# Altium integrated library Analog Devices Data Converters Analog-to-Digital Converters.IntLib: 2400 symbols (part 302 of 338)
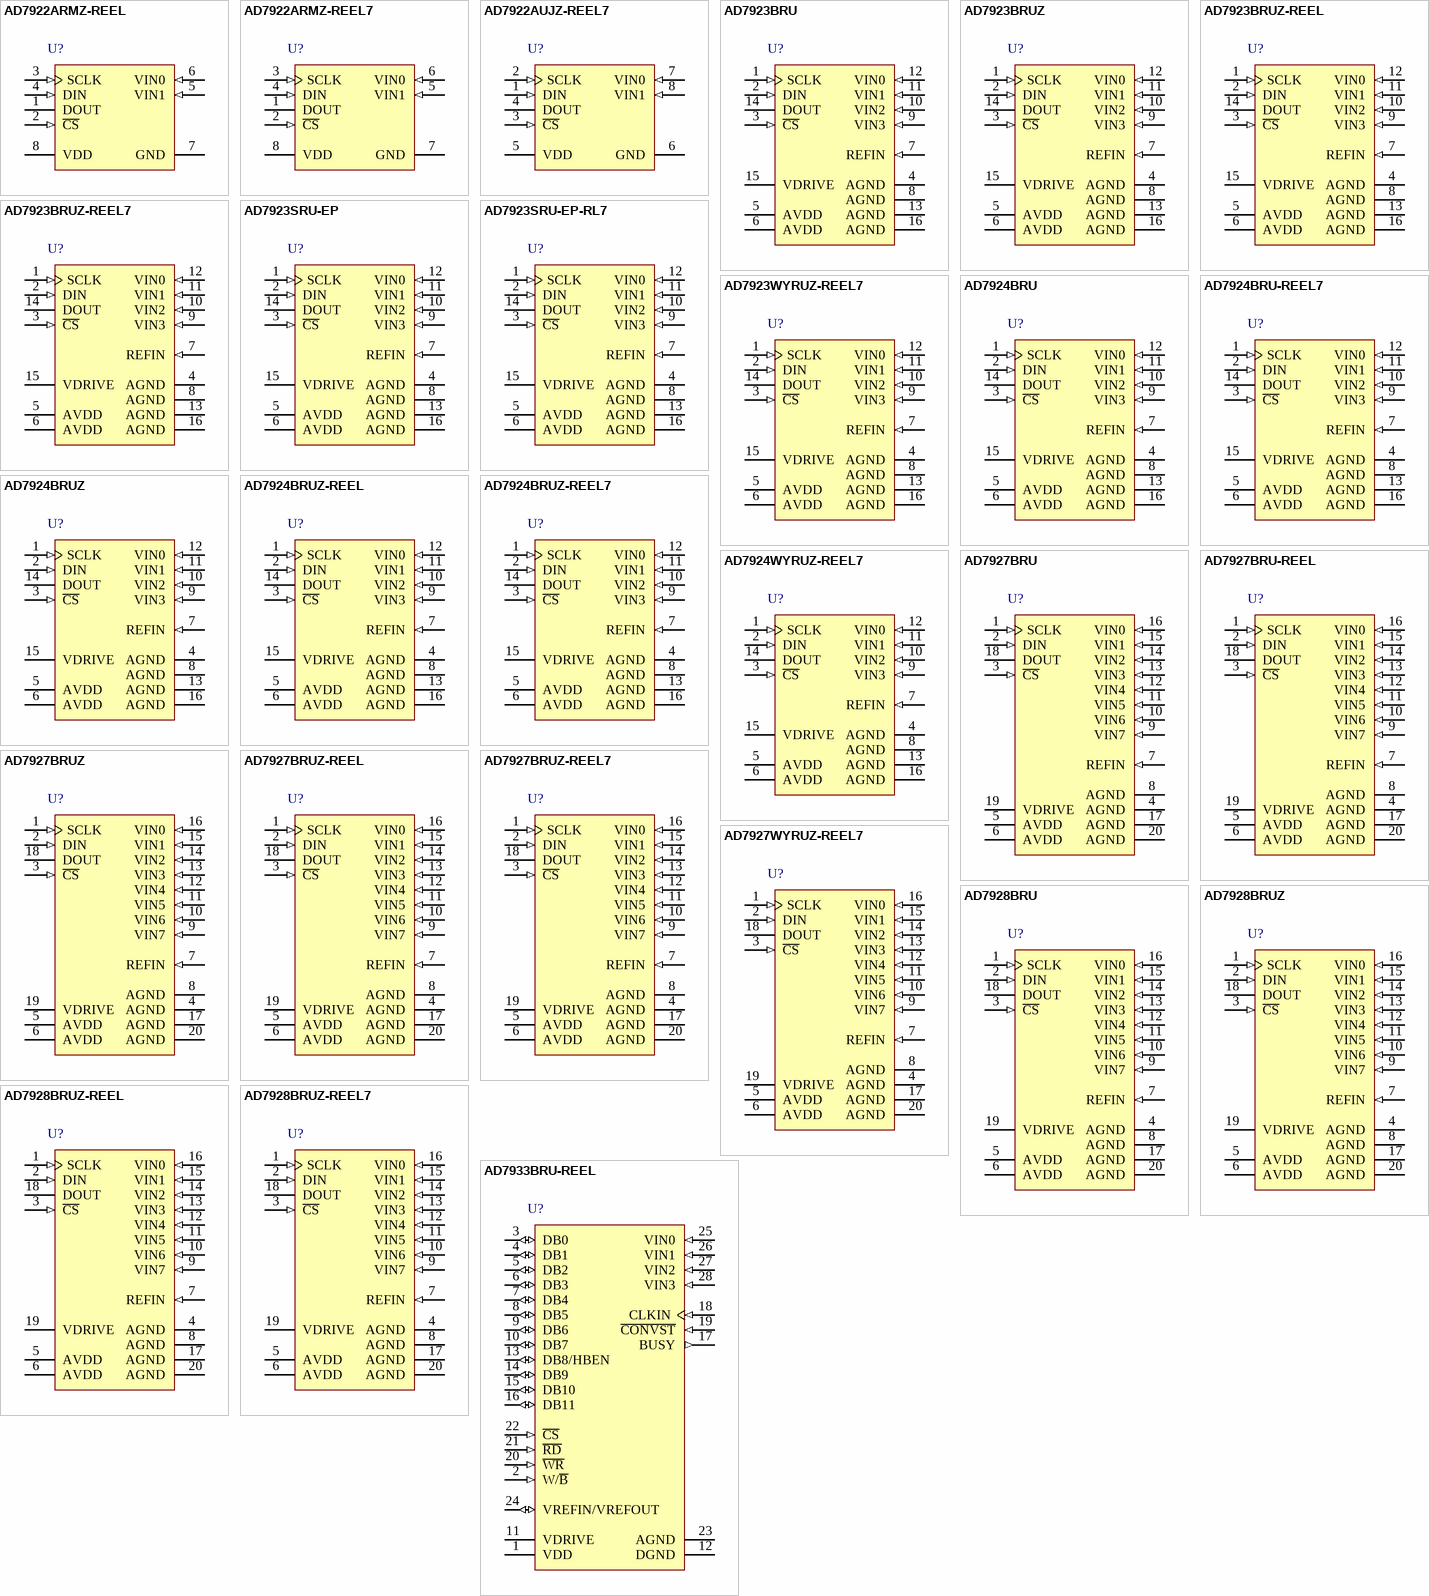
[diagram p319: symbols AD7922ARMZ-REEL to AD7933BRU-REEL]

## AD7927WYRUZ-REEL7
designator U?
Octal 12-Bit Analog-to-Digital Converter with Serial, SPI Interface and Sequencer, 200KSPS, -40 to +125 degC, RU-20, Pb-Free, Reel; Part Number: AD7927; Manufacturer: Analog Devices; Resolution (Bits): 12; Channels: 8; Throughput Rate (SPS): 200K; Interface: Ser, SPI; Automotive Qualified: Yes; DatasheetVersion: Rev.C; PackageVersion: 2000; PackageReference: RU-20; PackageDescription: 20-Lead Thin Shrink Small Outline Package [TSSOP]; RoHS: Y; Packing: Reel; Mounting Technology: Surface Mount; Code_JEDEC: MO-153AC; ComponentLink1Description: Manufacturer URL; ComponentLink1URL: http://www.analog.com/en/index.html; ComponentLink2Description: Datasheet; ComponentLink2URL: http://www.analog.com/static/imported-files/data_sheets/AD7927.pdf; ComponentLink3Description: Package Specification; ComponentLink3URL: http://www.analog.com/static/imported-files/packages/364515793657813558433715854054607941441RU20.pdf; ComponentLink4Description: Product URL; ComponentLink4URL: http://www.analog.com/en/analog-to-digital-converters/ad-converters/ad7927/products/product.html
footprint RU-20_N (TSOP, 20-Leads, Body 6.5x4.4mm, Pitch 0.65mm, IPC Medium Density)
footprint RU-20_L (TSOP, 20-Leads, Body 6.5x4.4mm, Pitch 0.65mm, IPC High Density)
footprint RU-20_M (TSOP, 20-Leads, Body 6.5x4.4mm, Pitch 0.65mm, IPC Low Density)
pins: 1 SCLK (in) "Serial Clock. Logic input. SCLK provides the serial clock for accessing data from the part. This clock input is also used as the clock source for the AD7927 conversion process.", 2 DIN (in) "Data In. Logic input. Data to be written to the AD7927 control register is provided on this input and is clocked into the register on the falling edge of SCLK (see the Control Register section).", 3 ~{CS} (in) "Chip Select. Active low logic input. This input provides the dual function of initiating conversions on the AD7927 and framing the serial data transfer.", 4 AGND (power) "Analog Ground. Ground reference point for all analog circuitry on the AD7927. All analog input signals and any external reference signal should be referred to this AGND voltage. All AGND pins should be connected together.", 5 AVDD (power) "Analog Power Supply Input. The AVDD range for the AD7927 is from 2.7 V to 5.25 V. For the 0 V to 2 x REFIN range, AVDD should be from 4.75 V to 5.25 V.", 6 AVDD (power) "Analog Power Supply Input. The AVDD range for the AD7927 is from 2.7 V to 5.25 V. For the 0 V to 2 x REFIN range, AVDD should be from 4.75 V to 5.25 V.", 7 REFIN (in) "Reference Input for the AD7927. An external reference must be applied to this input. The voltage range for the external reference is 2.5 V +/-1% for specified performance.", 8 AGND (power) "Analog Ground. Ground reference point for all analog circuitry on the AD7927. All analog input signals and any external reference signal should be referred to this AGND voltage. All AGND pins should be connected together.", 9 VIN7 (in) "Analog Input 7. Eight single-ended analog input channels that are multiplexed into the on-chip track-and-hold. The analog input channel to be converted is selected by using the address bits (ADD2 through ADD0) of the control (See Datasheet)", 10 VIN6 (in) "Analog Input 6. Eight single-ended analog input channels that are multiplexed into the on-chip track-and-hold. The analog input channel to be converted is selected by using the address bits (ADD2 through ADD0) of the control (See Datasheet)", 11 VIN5 (in) "Analog Input 5. Eight single-ended analog input channels that are multiplexed into the on-chip track-and-hold. The analog input channel to be converted is selected by using the address bits (ADD2 through ADD0) of the control (See Datasheet)", 12 VIN4 (in) "Analog Input 4. Eight single-ended analog input channels that are multiplexed into the on-chip track-and-hold. The analog input channel to be converted is selected by using the address bits (ADD2 through ADD0) of the control (See Datasheet)", 13 VIN3 (in) "Analog Input 3. Eight single-ended analog input channels that are multiplexed into the on-chip track-and-hold. The analog input channel to be converted is selected by using the address bits (ADD2 through ADD0) of the control (See Datasheet)", 14 VIN2 (in) "Analog Input 2. Eight single-ended analog input channels that are multiplexed into the on-chip track-and-hold. The analog input channel to be converted is selected by using the address bits (ADD2 through ADD0) of the control (See Datasheet)", 15 VIN1 (in) "Analog Input 1. Eight single-ended analog input channels that are multiplexed into the on-chip track-and-hold. The analog input channel to be converted is selected by using the address bits (ADD2 through ADD0) of the control (See Datasheet)", 16 VIN0 (in) "Analog Input 0 . Eight single-ended analog input channels that are multiplexed into the on-chip track-and-hold. The analog input channel to be converted is selected by using the address bits (ADD2 through ADD0) of the (See Datasheet)", 17 AGND (power) "Analog Ground. Ground reference point for all analog circuitry on the AD7927. All analog input signals and any external reference signal should be referred to this AGND voltage. All AGND pins should be connected together.", 18 DOUT (hiz) "Data Out. Logic output. The conversion result from the AD7927 is provided on this output as a serial data stream. The bits are clocked out on the falling edge of the SCLK input. The data stream from the AD7927 consists of (See Datasheet)", 19 VDRIVE (power) "Logic Power Supply Input. The voltage supplied at this pin determines at what voltage the serial interface of the AD7927 operates.", 20 AGND (power) "Analog Ground. Ground reference point for all analog circuitry on the AD7927. All analog input signals and any external reference signal should be referred to this AGND voltage. All AGND pins should be connected together."

## AD7928BRU
designator U?
Octal 12-Bit Analog-to-Digital Converter with Serial, SPI Interface and Sequencer, 1MSPS, -40 to +85 degC, RU-20, Tube; Part Number: AD7928; Manufacturer: Analog Devices; Resolution (Bits): 12; Channels: 8; Throughput Rate (SPS): 1M; Interface: Ser, SPI; Automotive Qualified: Yes; DatasheetVersion: Rev.D; PackageVersion: 2000; PackageReference: RU-20; PackageDescription: 20-Lead Thin Shrink Small Outline Package [TSSOP]; RoHS: N; Packing: Tube; Mounting Technology: Surface Mount; Code_JEDEC: MO-153AC; ComponentLink1Description: Manufacturer URL; ComponentLink1URL: http://www.analog.com/en/index.html; ComponentLink2Description: Datasheet; ComponentLink2URL: http://www.analog.com/static/imported-files/data_sheets/AD7908_7918_7928.pdf; ComponentLink3Description: Package Specification; ComponentLink3URL: http://www.analog.com/static/imported-files/packages/364515793657813558433715854054607941441RU20.pdf; ComponentLink4Description: Product URL; ComponentLink4URL: http://www.analog.com/en/analog-to-digital-converters/ad-converters/ad7928/products/product.html
footprint RU-20_N (TSOP, 20-Leads, Body 6.5x4.4mm, Pitch 0.65mm, IPC Medium Density)
footprint RU-20_L (TSOP, 20-Leads, Body 6.5x4.4mm, Pitch 0.65mm, IPC High Density)
footprint RU-20_M (TSOP, 20-Leads, Body 6.5x4.4mm, Pitch 0.65mm, IPC Low Density)
pins: 1 SCLK (in) "Serial Clock. Logic input. SCLK provides the serial clock for accessing data from the part. This clock input is also used as the clock source for the conversion process of the AD7908/AD7918/AD7928.", 2 DIN (in) "Data In. Logic input. Data to be written to the control register of the AD7908/AD7918/AD7928 is provided on this input and is clocked into the register on the falling edge of SCLK (see the Control Register section).", 3 ~{CS} (in) "Chip Select. Active low logic input. This input provides the dual function of initiating conversions on the AD7908/AD7918/AD7928, and also frames the serial data transfer.", 4 AGND (power) "Analog Ground. This is the ground reference point for all analog circuitry on the AD7908/AD7918/AD7928. All analog input signals and any external reference signal should be referred to this AGND voltage. All AGND pins should (See Datasheet)", 5 AVDD (power) "Analog Power Supply Input. The AVDD range for the AD7908/AD7918/AD7928 is from 2.7 V to 5.25 V. For the 0 V to 2 x REFIN range, AVDD should be from 4.75 V to 5.25 V.", 6 AVDD (power) "Analog Power Supply Input. The AVDD range for the AD7908/AD7918/AD7928 is from 2.7 V to 5.25 V. For the 0 V to 2 x REFIN range, AVDD should be from 4.75 V to 5.25 V.", 7 REFIN (in) "Reference Input for the AD7908/AD7918/AD7928. An external reference must be applied to this input. The voltage range for the external reference is 2.5 V +/- 1% for specified performance.", 8 AGND (power) "Analog Ground. This is the ground reference point for all analog circuitry on the AD7908/AD7918/AD7928. All analog input signals and any external reference signal should be referred to this AGND voltage. All AGND pins should (See Datasheet)", 9 VIN7 (in) "Analog Input 0 through Analog Input 7. These are eight single-ended analog input channels that are multiplexed into the on-chip track-and-hold. The analog input channel to be converted is selected by using Address Bit ADD2 (See Datasheet)", 10 VIN6 (in) "Analog Input 0 through Analog Input 7. These are eight single-ended analog input channels that are multiplexed into the on-chip track-and-hold. The analog input channel to be converted is selected by using Address Bit ADD2 (See Datasheet)", 11 VIN5 (in) "Analog Input 0 through Analog Input 7. These are eight single-ended analog input channels that are multiplexed into the on-chip track-and-hold. The analog input channel to be converted is selected by using Address Bit ADD2 (See Datasheet)", 12 VIN4 (in) "Analog Input 0 through Analog Input 7. These are eight single-ended analog input channels that are multiplexed into the on-chip track-and-hold. The analog input channel to be converted is selected by using Address Bit ADD2 (See Datasheet)", 13 VIN3 (in) "Analog Input 0 through Analog Input 7. These are eight single-ended analog input channels that are multiplexed into the on-chip track-and-hold. The analog input channel to be converted is selected by using Address Bit ADD2 (See Datasheet)", 14 VIN2 (in) "Analog Input 0 through Analog Input 7. These are eight single-ended analog input channels that are multiplexed into the on-chip track-and-hold. The analog input channel to be converted is selected by using Address Bit ADD2 (See Datasheet)", 15 VIN1 (in) "Analog Input 0 through Analog Input 7. These are eight single-ended analog input channels that are multiplexed into the on-chip track-and-hold. The analog input channel to be converted is selected by using Address Bit ADD2 (See Datasheet)", 16 VIN0 (in) "Analog Input 0 through Analog Input 7. These are eight single-ended analog input channels that are multiplexed into the on-chip track-and-hold. The analog input channel to be converted is selected by using Address Bit ADD2 (See Datasheet)", 17 AGND (power) "Analog Ground. This is the ground reference point for all analog circuitry on the AD7908/AD7918/AD7928. All analog input signals and any external reference signal should be referred to this AGND voltage. All AGND pins should (See Datasheet)", 18 DOUT (hiz) "Data Out. Logic output. The conversion result from the AD7908/AD7918/AD7928 is provided on this output as a serial data stream. The bits are clocked out on the falling edge of the SCLK input. The data stream from the AD7908 (See Datasheet)", 19 VDRIVE (power) "Logic Power Supply Input. The voltage supplied at this pin determines at what voltage the serial interface of the AD7908/AD7918/AD7928 operates.", 20 AGND (power) "Analog Ground. This is the ground reference point for all analog circuitry on the AD7908/AD7918/AD7928. All analog input signals and any external reference signal should be referred to this AGND voltage. All AGND pins should (See Datasheet)"

## AD7928BRUZ
designator U?
Octal 12-Bit Analog-to-Digital Converter with Serial, SPI Interface and Sequencer, 1MSPS, -40 to +85 degC, RU-20, Pb-Free, Tube; Part Number: AD7928; Manufacturer: Analog Devices; Resolution (Bits): 12; Channels: 8; Throughput Rate (SPS): 1M; Interface: Ser, SPI; Automotive Qualified: Yes; DatasheetVersion: Rev.D; PackageVersion: 2000; PackageReference: RU-20; PackageDescription: 20-Lead Thin Shrink Small Outline Package [TSSOP]; RoHS: Y; Packing: Tube; Mounting Technology: Surface Mount; Code_JEDEC: MO-153AC; ComponentLink1Description: Manufacturer URL; ComponentLink1URL: http://www.analog.com/en/index.html; ComponentLink2Description: Datasheet; ComponentLink2URL: http://www.analog.com/static/imported-files/data_sheets/AD7908_7918_7928.pdf; ComponentLink3Description: Package Specification; ComponentLink3URL: http://www.analog.com/static/imported-files/packages/364515793657813558433715854054607941441RU20.pdf; ComponentLink4Description: Product URL; ComponentLink4URL: http://www.analog.com/en/analog-to-digital-converters/ad-converters/ad7928/products/product.html
footprint RU-20_N (TSOP, 20-Leads, Body 6.5x4.4mm, Pitch 0.65mm, IPC Medium Density)
footprint RU-20_L (TSOP, 20-Leads, Body 6.5x4.4mm, Pitch 0.65mm, IPC High Density)
footprint RU-20_M (TSOP, 20-Leads, Body 6.5x4.4mm, Pitch 0.65mm, IPC Low Density)
pins: 1 SCLK (in) "Serial Clock. Logic input. SCLK provides the serial clock for accessing data from the part. This clock input is also used as the clock source for the conversion process of the AD7908/AD7918/AD7928.", 2 DIN (in) "Data In. Logic input. Data to be written to the control register of the AD7908/AD7918/AD7928 is provided on this input and is clocked into the register on the falling edge of SCLK (see the Control Register section).", 3 ~{CS} (in) "Chip Select. Active low logic input. This input provides the dual function of initiating conversions on the AD7908/AD7918/AD7928, and also frames the serial data transfer.", 4 AGND (power) "Analog Ground. This is the ground reference point for all analog circuitry on the AD7908/AD7918/AD7928. All analog input signals and any external reference signal should be referred to this AGND voltage. All AGND pins should (See Datasheet)", 5 AVDD (power) "Analog Power Supply Input. The AVDD range for the AD7908/AD7918/AD7928 is from 2.7 V to 5.25 V. For the 0 V to 2 x REFIN range, AVDD should be from 4.75 V to 5.25 V.", 6 AVDD (power) "Analog Power Supply Input. The AVDD range for the AD7908/AD7918/AD7928 is from 2.7 V to 5.25 V. For the 0 V to 2 x REFIN range, AVDD should be from 4.75 V to 5.25 V.", 7 REFIN (in) "Reference Input for the AD7908/AD7918/AD7928. An external reference must be applied to this input. The voltage range for the external reference is 2.5 V +/- 1% for specified performance.", 8 AGND (power) "Analog Ground. This is the ground reference point for all analog circuitry on the AD7908/AD7918/AD7928. All analog input signals and any external reference signal should be referred to this AGND voltage. All AGND pins should (See Datasheet)", 9 VIN7 (in) "Analog Input 0 through Analog Input 7. These are eight single-ended analog input channels that are multiplexed into the on-chip track-and-hold. The analog input channel to be converted is selected by using Address Bit ADD2 (See Datasheet)", 10 VIN6 (in) "Analog Input 0 through Analog Input 7. These are eight single-ended analog input channels that are multiplexed into the on-chip track-and-hold. The analog input channel to be converted is selected by using Address Bit ADD2 (See Datasheet)", 11 VIN5 (in) "Analog Input 0 through Analog Input 7. These are eight single-ended analog input channels that are multiplexed into the on-chip track-and-hold. The analog input channel to be converted is selected by using Address Bit ADD2 (See Datasheet)", 12 VIN4 (in) "Analog Input 0 through Analog Input 7. These are eight single-ended analog input channels that are multiplexed into the on-chip track-and-hold. The analog input channel to be converted is selected by using Address Bit ADD2 (See Datasheet)", 13 VIN3 (in) "Analog Input 0 through Analog Input 7. These are eight single-ended analog input channels that are multiplexed into the on-chip track-and-hold. The analog input channel to be converted is selected by using Address Bit ADD2 (See Datasheet)", 14 VIN2 (in) "Analog Input 0 through Analog Input 7. These are eight single-ended analog input channels that are multiplexed into the on-chip track-and-hold. The analog input channel to be converted is selected by using Address Bit ADD2 (See Datasheet)", 15 VIN1 (in) "Analog Input 0 through Analog Input 7. These are eight single-ended analog input channels that are multiplexed into the on-chip track-and-hold. The analog input channel to be converted is selected by using Address Bit ADD2 (See Datasheet)", 16 VIN0 (in) "Analog Input 0 through Analog Input 7. These are eight single-ended analog input channels that are multiplexed into the on-chip track-and-hold. The analog input channel to be converted is selected by using Address Bit ADD2 (See Datasheet)", 17 AGND (power) "Analog Ground. This is the ground reference point for all analog circuitry on the AD7908/AD7918/AD7928. All analog input signals and any external reference signal should be referred to this AGND voltage. All AGND pins should (See Datasheet)", 18 DOUT (hiz) "Data Out. Logic output. The conversion result from the AD7908/AD7918/AD7928 is provided on this output as a serial data stream. The bits are clocked out on the falling edge of the SCLK input. The data stream from the AD7908 (See Datasheet)", 19 VDRIVE (power) "Logic Power Supply Input. The voltage supplied at this pin determines at what voltage the serial interface of the AD7908/AD7918/AD7928 operates.", 20 AGND (power) "Analog Ground. This is the ground reference point for all analog circuitry on the AD7908/AD7918/AD7928. All analog input signals and any external reference signal should be referred to this AGND voltage. All AGND pins should (See Datasheet)"

## AD7928BRUZ-REEL
designator U?
Octal 12-Bit Analog-to-Digital Converter with Serial, SPI Interface and Sequencer, 1MSPS, -40 to +85 degC, RU-20, Pb-Free, Reel; Part Number: AD7928; Manufacturer: Analog Devices; Resolution (Bits): 12; Channels: 8; Throughput Rate (SPS): 1M; Interface: Ser, SPI; Automotive Qualified: Yes; DatasheetVersion: Rev.D; PackageVersion: 2000; PackageReference: RU-20; PackageDescription: 20-Lead Thin Shrink Small Outline Package [TSSOP]; RoHS: Y; Packing: Reel; Mounting Technology: Surface Mount; Code_JEDEC: MO-153AC; ComponentLink1Description: Manufacturer URL; ComponentLink1URL: http://www.analog.com/en/index.html; ComponentLink2Description: Datasheet; ComponentLink2URL: http://www.analog.com/static/imported-files/data_sheets/AD7908_7918_7928.pdf; ComponentLink3Description: Package Specification; ComponentLink3URL: http://www.analog.com/static/imported-files/packages/364515793657813558433715854054607941441RU20.pdf; ComponentLink4Description: Product URL; ComponentLink4URL: http://www.analog.com/en/analog-to-digital-converters/ad-converters/ad7928/products/product.html
footprint RU-20_N (TSOP, 20-Leads, Body 6.5x4.4mm, Pitch 0.65mm, IPC Medium Density)
footprint RU-20_L (TSOP, 20-Leads, Body 6.5x4.4mm, Pitch 0.65mm, IPC High Density)
footprint RU-20_M (TSOP, 20-Leads, Body 6.5x4.4mm, Pitch 0.65mm, IPC Low Density)
pins: 1 SCLK (in) "Serial Clock. Logic input. SCLK provides the serial clock for accessing data from the part. This clock input is also used as the clock source for the conversion process of the AD7908/AD7918/AD7928.", 2 DIN (in) "Data In. Logic input. Data to be written to the control register of the AD7908/AD7918/AD7928 is provided on this input and is clocked into the register on the falling edge of SCLK (see the Control Register section).", 3 ~{CS} (in) "Chip Select. Active low logic input. This input provides the dual function of initiating conversions on the AD7908/AD7918/AD7928, and also frames the serial data transfer.", 4 AGND (power) "Analog Ground. This is the ground reference point for all analog circuitry on the AD7908/AD7918/AD7928. All analog input signals and any external reference signal should be referred to this AGND voltage. All AGND pins should (See Datasheet)", 5 AVDD (power) "Analog Power Supply Input. The AVDD range for the AD7908/AD7918/AD7928 is from 2.7 V to 5.25 V. For the 0 V to 2 x REFIN range, AVDD should be from 4.75 V to 5.25 V.", 6 AVDD (power) "Analog Power Supply Input. The AVDD range for the AD7908/AD7918/AD7928 is from 2.7 V to 5.25 V. For the 0 V to 2 x REFIN range, AVDD should be from 4.75 V to 5.25 V.", 7 REFIN (in) "Reference Input for the AD7908/AD7918/AD7928. An external reference must be applied to this input. The voltage range for the external reference is 2.5 V +/- 1% for specified performance.", 8 AGND (power) "Analog Ground. This is the ground reference point for all analog circuitry on the AD7908/AD7918/AD7928. All analog input signals and any external reference signal should be referred to this AGND voltage. All AGND pins should (See Datasheet)", 9 VIN7 (in) "Analog Input 0 through Analog Input 7. These are eight single-ended analog input channels that are multiplexed into the on-chip track-and-hold. The analog input channel to be converted is selected by using Address Bit ADD2 (See Datasheet)", 10 VIN6 (in) "Analog Input 0 through Analog Input 7. These are eight single-ended analog input channels that are multiplexed into the on-chip track-and-hold. The analog input channel to be converted is selected by using Address Bit ADD2 (See Datasheet)", 11 VIN5 (in) "Analog Input 0 through Analog Input 7. These are eight single-ended analog input channels that are multiplexed into the on-chip track-and-hold. The analog input channel to be converted is selected by using Address Bit ADD2 (See Datasheet)", 12 VIN4 (in) "Analog Input 0 through Analog Input 7. These are eight single-ended analog input channels that are multiplexed into the on-chip track-and-hold. The analog input channel to be converted is selected by using Address Bit ADD2 (See Datasheet)", 13 VIN3 (in) "Analog Input 0 through Analog Input 7. These are eight single-ended analog input channels that are multiplexed into the on-chip track-and-hold. The analog input channel to be converted is selected by using Address Bit ADD2 (See Datasheet)", 14 VIN2 (in) "Analog Input 0 through Analog Input 7. These are eight single-ended analog input channels that are multiplexed into the on-chip track-and-hold. The analog input channel to be converted is selected by using Address Bit ADD2 (See Datasheet)", 15 VIN1 (in) "Analog Input 0 through Analog Input 7. These are eight single-ended analog input channels that are multiplexed into the on-chip track-and-hold. The analog input channel to be converted is selected by using Address Bit ADD2 (See Datasheet)", 16 VIN0 (in) "Analog Input 0 through Analog Input 7. These are eight single-ended analog input channels that are multiplexed into the on-chip track-and-hold. The analog input channel to be converted is selected by using Address Bit ADD2 (See Datasheet)", 17 AGND (power) "Analog Ground. This is the ground reference point for all analog circuitry on the AD7908/AD7918/AD7928. All analog input signals and any external reference signal should be referred to this AGND voltage. All AGND pins should (See Datasheet)", 18 DOUT (hiz) "Data Out. Logic output. The conversion result from the AD7908/AD7918/AD7928 is provided on this output as a serial data stream. The bits are clocked out on the falling edge of the SCLK input. The data stream from the AD7908 (See Datasheet)", 19 VDRIVE (power) "Logic Power Supply Input. The voltage supplied at this pin determines at what voltage the serial interface of the AD7908/AD7918/AD7928 operates.", 20 AGND (power) "Analog Ground. This is the ground reference point for all analog circuitry on the AD7908/AD7918/AD7928. All analog input signals and any external reference signal should be referred to this AGND voltage. All AGND pins should (See Datasheet)"

## AD7928BRUZ-REEL7
designator U?
Octal 12-Bit Analog-to-Digital Converter with Serial, SPI Interface and Sequencer, 1MSPS, -40 to +85 degC, RU-20, Pb-Free, Reel; Part Number: AD7928; Manufacturer: Analog Devices; Resolution (Bits): 12; Channels: 8; Throughput Rate (SPS): 1M; Interface: Ser, SPI; Automotive Qualified: Yes; DatasheetVersion: Rev.D; PackageVersion: 2000; PackageReference: RU-20; PackageDescription: 20-Lead Thin Shrink Small Outline Package [TSSOP]; RoHS: Y; Packing: Reel; Mounting Technology: Surface Mount; Code_JEDEC: MO-153AC; ComponentLink1Description: Manufacturer URL; ComponentLink1URL: http://www.analog.com/en/index.html; ComponentLink2Description: Datasheet; ComponentLink2URL: http://www.analog.com/static/imported-files/data_sheets/AD7908_7918_7928.pdf; ComponentLink3Description: Package Specification; ComponentLink3URL: http://www.analog.com/static/imported-files/packages/364515793657813558433715854054607941441RU20.pdf; ComponentLink4Description: Product URL; ComponentLink4URL: http://www.analog.com/en/analog-to-digital-converters/ad-converters/ad7928/products/product.html
footprint RU-20_N (TSOP, 20-Leads, Body 6.5x4.4mm, Pitch 0.65mm, IPC Medium Density)
footprint RU-20_L (TSOP, 20-Leads, Body 6.5x4.4mm, Pitch 0.65mm, IPC High Density)
footprint RU-20_M (TSOP, 20-Leads, Body 6.5x4.4mm, Pitch 0.65mm, IPC Low Density)
pins: 1 SCLK (in) "Serial Clock. Logic input. SCLK provides the serial clock for accessing data from the part. This clock input is also used as the clock source for the conversion process of the AD7908/AD7918/AD7928.", 2 DIN (in) "Data In. Logic input. Data to be written to the control register of the AD7908/AD7918/AD7928 is provided on this input and is clocked into the register on the falling edge of SCLK (see the Control Register section).", 3 ~{CS} (in) "Chip Select. Active low logic input. This input provides the dual function of initiating conversions on the AD7908/AD7918/AD7928, and also frames the serial data transfer.", 4 AGND (power) "Analog Ground. This is the ground reference point for all analog circuitry on the AD7908/AD7918/AD7928. All analog input signals and any external reference signal should be referred to this AGND voltage. All AGND pins should (See Datasheet)", 5 AVDD (power) "Analog Power Supply Input. The AVDD range for the AD7908/AD7918/AD7928 is from 2.7 V to 5.25 V. For the 0 V to 2 x REFIN range, AVDD should be from 4.75 V to 5.25 V.", 6 AVDD (power) "Analog Power Supply Input. The AVDD range for the AD7908/AD7918/AD7928 is from 2.7 V to 5.25 V. For the 0 V to 2 x REFIN range, AVDD should be from 4.75 V to 5.25 V.", 7 REFIN (in) "Reference Input for the AD7908/AD7918/AD7928. An external reference must be applied to this input. The voltage range for the external reference is 2.5 V +/- 1% for specified performance.", 8 AGND (power) "Analog Ground. This is the ground reference point for all analog circuitry on the AD7908/AD7918/AD7928. All analog input signals and any external reference signal should be referred to this AGND voltage. All AGND pins should (See Datasheet)", 9 VIN7 (in) "Analog Input 0 through Analog Input 7. These are eight single-ended analog input channels that are multiplexed into the on-chip track-and-hold. The analog input channel to be converted is selected by using Address Bit ADD2 (See Datasheet)", 10 VIN6 (in) "Analog Input 0 through Analog Input 7. These are eight single-ended analog input channels that are multiplexed into the on-chip track-and-hold. The analog input channel to be converted is selected by using Address Bit ADD2 (See Datasheet)", 11 VIN5 (in) "Analog Input 0 through Analog Input 7. These are eight single-ended analog input channels that are multiplexed into the on-chip track-and-hold. The analog input channel to be converted is selected by using Address Bit ADD2 (See Datasheet)", 12 VIN4 (in) "Analog Input 0 through Analog Input 7. These are eight single-ended analog input channels that are multiplexed into the on-chip track-and-hold. The analog input channel to be converted is selected by using Address Bit ADD2 (See Datasheet)", 13 VIN3 (in) "Analog Input 0 through Analog Input 7. These are eight single-ended analog input channels that are multiplexed into the on-chip track-and-hold. The analog input channel to be converted is selected by using Address Bit ADD2 (See Datasheet)", 14 VIN2 (in) "Analog Input 0 through Analog Input 7. These are eight single-ended analog input channels that are multiplexed into the on-chip track-and-hold. The analog input channel to be converted is selected by using Address Bit ADD2 (See Datasheet)", 15 VIN1 (in) "Analog Input 0 through Analog Input 7. These are eight single-ended analog input channels that are multiplexed into the on-chip track-and-hold. The analog input channel to be converted is selected by using Address Bit ADD2 (See Datasheet)", 16 VIN0 (in) "Analog Input 0 through Analog Input 7. These are eight single-ended analog input channels that are multiplexed into the on-chip track-and-hold. The analog input channel to be converted is selected by using Address Bit ADD2 (See Datasheet)", 17 AGND (power) "Analog Ground. This is the ground reference point for all analog circuitry on the AD7908/AD7918/AD7928. All analog input signals and any external reference signal should be referred to this AGND voltage. All AGND pins should (See Datasheet)", 18 DOUT (hiz) "Data Out. Logic output. The conversion result from the AD7908/AD7918/AD7928 is provided on this output as a serial data stream. The bits are clocked out on the falling edge of the SCLK input. The data stream from the AD7908 (See Datasheet)", 19 VDRIVE (power) "Logic Power Supply Input. The voltage supplied at this pin determines at what voltage the serial interface of the AD7908/AD7918/AD7928 operates.", 20 AGND (power) "Analog Ground. This is the ground reference point for all analog circuitry on the AD7908/AD7918/AD7928. All analog input signals and any external reference signal should be referred to this AGND voltage. All AGND pins should (See Datasheet)"

## AD7933BRU-REEL
designator U?
Quad 10-Bit Analog-to-Digital Converter with Byte, Parallel Interface and Sequencer, 1.5MSPS, -40 to +85 degC, RU-28, Reel; Part Number: AD7933; Manufacturer: Analog Devices; Resolution (Bits): 10; Channels: 4; Throughput Rate (SPS): 1.5M; DatasheetVersion: Rev.B; PackageVersion: 2005; PackageReference: RU-28; PackageDescription: 28-Lead Thin Shrink Small Outline Package [TSSOP]; Interface: Byte, Par; RoHS: N; Packing: Reel; Mounting Technology: Surface Mount; Code_JEDEC: MO-153-AE; ComponentLink1Description: Manufacturer URL; ComponentLink1URL: http://www.analog.com/en/index.html; ComponentLink2Description: Datasheet; ComponentLink2URL: http://www.analog.com/static/imported-files/data_sheets/AD7933_7934.pdf; ComponentLink3Description: Package Specification; ComponentLink3URL: http://www.analog.com/static/imported-files/packages/249854663RU_28.pdf; ComponentLink4Description: Product URL; ComponentLink4URL: http://www.analog.com/en/analog-to-digital-converters/ad-converters/ad7933/products/product.html
footprint RU-28_N (TSOP, 28-Leads, Body 9.7x4.4mm, Pitch 0.65mm, IPC Medium Density)
footprint RU-28_L (TSOP, 28-Leads, Body 9.7x4.4mm, Pitch 0.65mm, IPC High Density)
footprint RU-28_M (TSOP, 28-Leads, Body 9.7x4.4mm, Pitch 0.65mm, IPC Low Density)
pins: 1 VDD (power) "Power Supply Input. The VDD range for the AD7933/AD7934 is from 2.7 V to 5.25 V. Decouple the supply to AGND with a 0.1 uF capacitor and a 10 uF tantalum capacitor.", 2 W/~{B} (in) "Word/Byte Input. When this input is logic high, word transfer mode is enabled, and data is transferred to and from the AD7933/AD7934 in 10-bit words on Pin DB2 to Pin DB11, or in 12-bit words on Pin DB0 to Pin DB11. When (See Datasheet)", 3 DB0 (io) "Data Bit 0 to Data Bit 7. Three-state parallel digital I/O pins that provide the conversion result and allow programming of the control register. These pins are controlled by C\S\, R\D\, and W\R\. The logic high/low voltage (See Datasheet)", 4 DB1 (io) "Data Bit 0 to Data Bit 7. Three-state parallel digital I/O pins that provide the conversion result and allow programming of the control register. These pins are controlled by C\S\, R\D\, and W\R\. The logic high/low voltage (See Datasheet)", 5 DB2 (io) "Data Bit 0 to Data Bit 7. Three-state parallel digital I/O pins that provide the conversion result and allow programming of the control register. These pins are controlled by C\S\, R\D\, and W\R\. The logic high/low voltage (See Datasheet)", 6 DB3 (io) "Data Bit 0 to Data Bit 7. Three-state parallel digital I/O pins that provide the conversion result and allow programming of the control register. These pins are controlled by C\S\, R\D\, and W\R\. The logic high/low voltage (See Datasheet)", 7 DB4 (io) "Data Bit 0 to Data Bit 7. Three-state parallel digital I/O pins that provide the conversion result and allow programming of the control register. These pins are controlled by C\S\, R\D\, and W\R\. The logic high/low voltage (See Datasheet)", 8 DB5 (io) "Data Bit 0 to Data Bit 7. Three-state parallel digital I/O pins that provide the conversion result and allow programming of the control register. These pins are controlled by C\S\, R\D\, and W\R\. The logic high/low voltage (See Datasheet)", 9 DB6 (io) "Data Bit 0 to Data Bit 7. Three-state parallel digital I/O pins that provide the conversion result and allow programming of the control register. These pins are controlled by C\S\, R\D\, and W\R\. The logic high/low voltage (See Datasheet)", 10 DB7 (io) "Data Bit 0 to Data Bit 7. Three-state parallel digital I/O pins that provide the conversion result and allow programming of the control register. These pins are controlled by C\S\, R\D\, and W\R\. The logic high/low voltage (See Datasheet)", 11 VDRIVE (power) "Logic Power Supply Input. The voltage supplied at this pin determines at what voltage the parallel interface of the AD7933/AD7934 operates. Decouple this pin to DGND. The voltage at this pin may be different to that at VDD (See Datasheet)", 12 DGND (power) "Digital Ground. This is the ground reference point for all digital circuitry on the AD7933/AD7934. Connect this pin to the DGND plane of a system. The DGND and AGND voltages should ideally be at the same potential and must (See Datasheet)", 13 DB8/HBEN (io) "Data Bit 8/High Byte Enable. When W/B\ is high, this pin acts as Data Bit 8, a three-state I/O pin that is controlled  by C\S\, R\D\, and W\R\. When W/B\  is low, this pin acts as the high byte enable pin. When HBEN is low, (See Datasheet)", 14 DB9 (io) "Data Bit 9 to Data Bit 11. Three-state parallel digital I/O pins that provide the conversion result and also allow the control register to be programmed in word mode. These pins are controlled by C\S\, R\D\, and W\R\. The (See Datasheet)", 15 DB10 (io) "Data Bit 9 to Data Bit 11. Three-state parallel digital I/O pins that provide the conversion result and also allow the control register to be programmed in word mode. These pins are controlled by C\S\, R\D\, and W\R\. The (See Datasheet)", 16 DB11 (io) "Data Bit 9 to Data Bit 11. Three-state parallel digital I/O pins that provide the conversion result and also allow the control register to be programmed in word mode. These pins are controlled by C\S\, R\D\, and W\R\. The (See Datasheet)", 17 BUSY (out) "Busy Output. This is the logic output indicating the status of the conversion. The BUSY output goes high following the falling edge of C\O\N\V\S\T\ and stays high for the duration of the conversion. Once the conversion is (See Datasheet)", 18 CLKIN (in) "Master Clock Input. The clock source for the conversion process is applied to this pin. Conversion time for the AD7933/AD7934 takes 13 clock cycles + t2. The frequency of the master clock input therefore determines the (See Datasheet)", 19 ~{CONVST} (in) "Conversion Start Input. A falling edge on C\O\N\V\S\T\ initiates a conversion. The track-and-hold goes from track to hold mode on the falling edge of C\O\N\V\S\T\, and the conversion process is initiated at this point. (See Datasheet)", 20 ~{WR} (in) "Write Input. Active low logic input used in conjunction with C\S\ to write data to the control register.", 21 ~{RD} (in) "Read Input. Active low logic input used in conjunction with C\S\ to access the conversion result. The conversion result is placed on the data bus following the falling edge of R\D\  read while C\S\  is low", 22 ~{CS} (in) "Chip Select. Active low logic input used in conjunction with R\D\ and W\R\ to read conversion data or write data to the control register.", 23 AGND (power) "Analog Ground. This is the ground reference point for all analog circuitry on the AD7933/AD7934. All analog input signals and any external reference signal should be referred to this AGND voltage. The AGND and DGND voltages (See Datasheet)", 24 VREFIN/VREFOUT (io) "Reference Input/Output. This pin is connected to the internal reference and is the reference source for the ADC.The nominal internal reference voltage is 2.5 V, and this appears at this pin. It is recommended to decouple the (See Datasheet)", 25 VIN0 (in) "Analog Input 0 to Analog Input 3. Four analog input channels that are multiplexed into the on-chip track-and-hold. The analog inputs can be programmed as four single-ended inputs, two fully differential pairs, or two pseudo (See Datasheet)", 26 VIN1 (in) "Analog Input 0 to Analog Input 3. Four analog input channels that are multiplexed into the on-chip track-and-hold. The analog inputs can be programmed as four single-ended inputs, two fully differential pairs, or two pseudo (See Datasheet)", 27 VIN2 (in) "Analog Input 0 to Analog Input 3. Four analog input channels that are multiplexed into the on-chip track-and-hold. The analog inputs can be programmed as four single-ended inputs, two fully differential pairs, or two pseudo (See Datasheet)", 28 VIN3 (in) "Analog Input 0 to Analog Input 3. Four analog input channels that are multiplexed into the on-chip track-and-hold. The analog inputs can be programmed as four single-ended inputs, two fully differential pairs, or two pseudo (See Datasheet)"

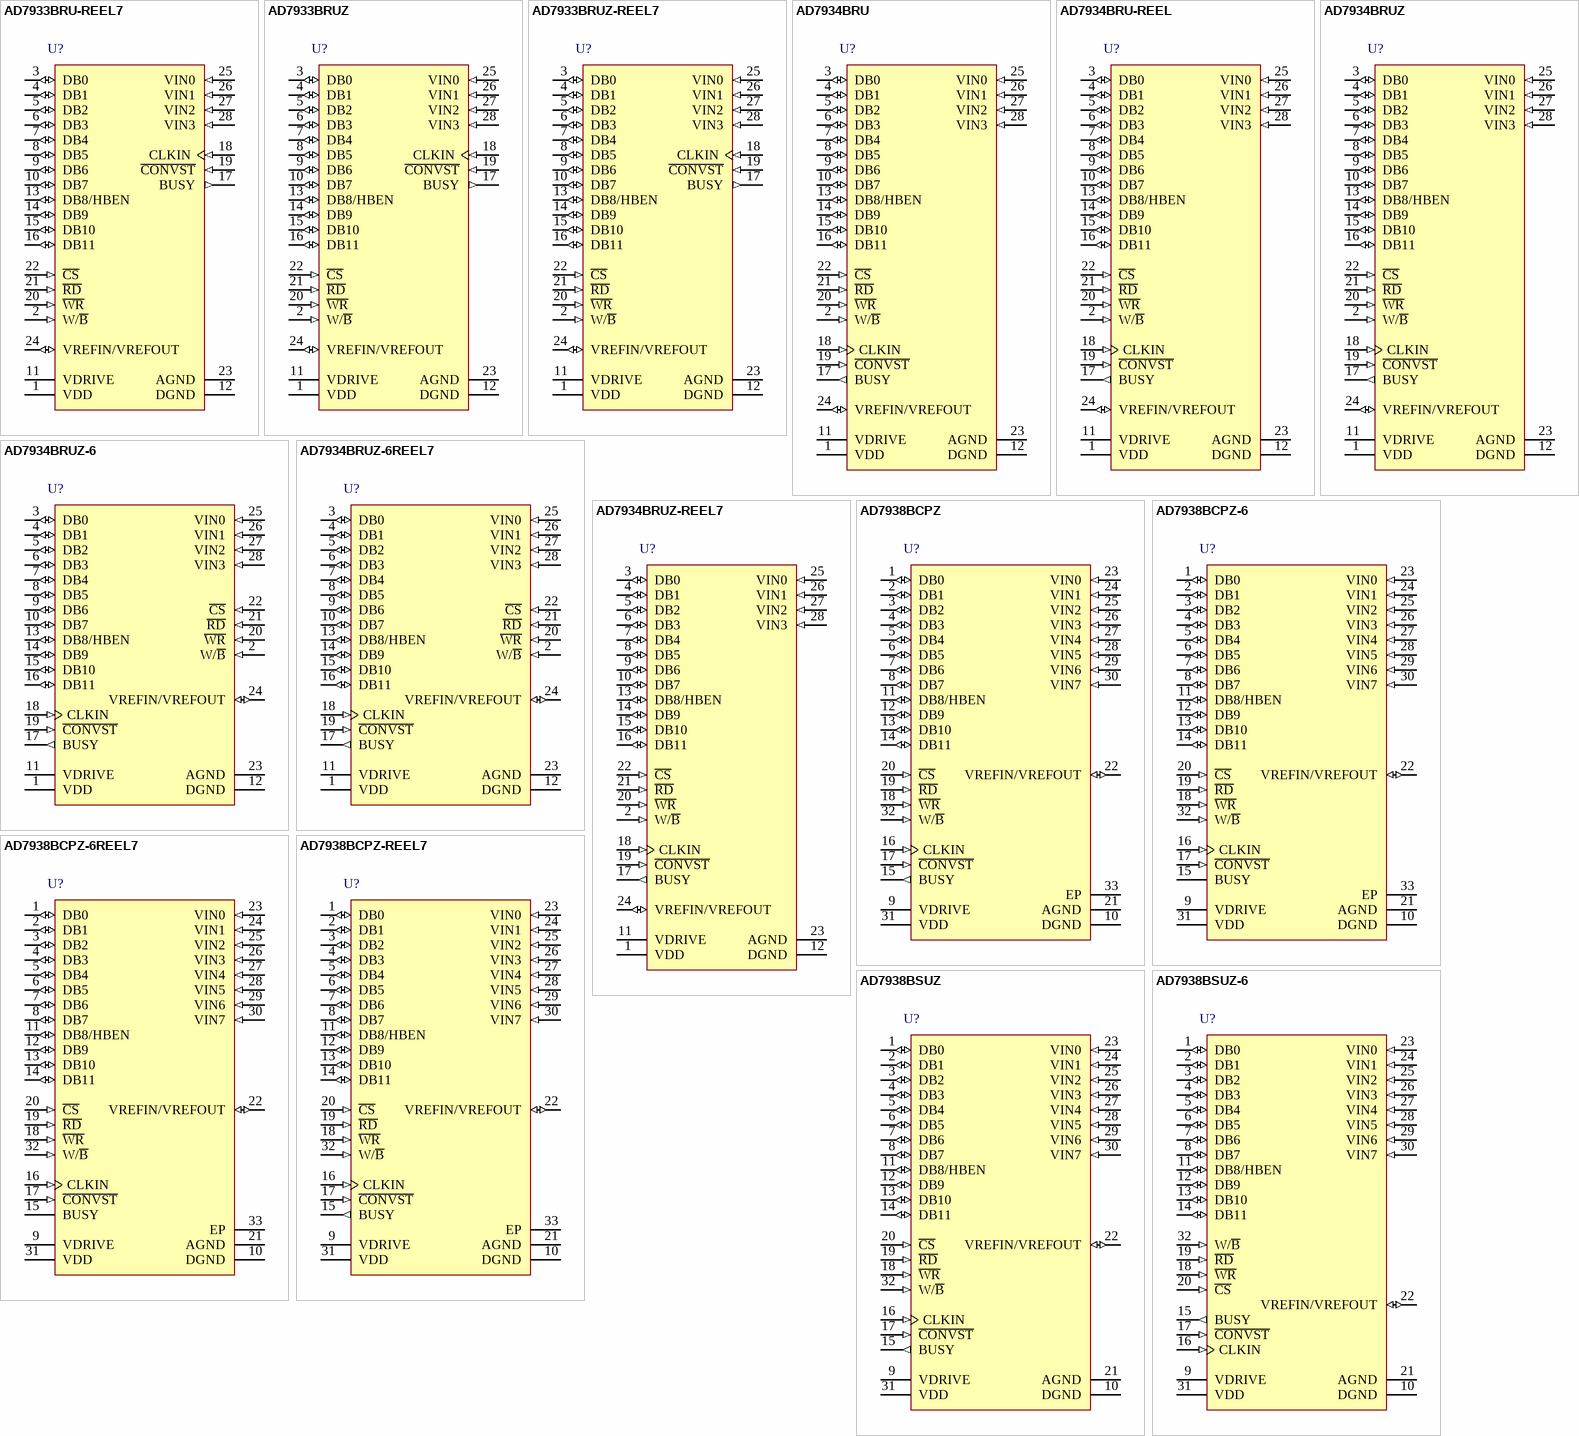
[diagram p91: symbols AD7933BRU-REEL7 to AD7938BSUZ-6]

## AD7933BRU-REEL7
designator U?
Quad 10-Bit Analog-to-Digital Converter with Byte, Parallel Interface and Sequencer, 1.5MSPS, -40 to +85 degC, RU-28, Reel; Part Number: AD7933; Manufacturer: Analog Devices; Resolution (Bits): 10; Channels: 4; Throughput Rate (SPS): 1.5M; DatasheetVersion: Rev.B; PackageVersion: 2005; PackageReference: RU-28; PackageDescription: 28-Lead Thin Shrink Small Outline Package [TSSOP]; Interface: Byte, Par; RoHS: N; Packing: Reel; Mounting Technology: Surface Mount; Code_JEDEC: MO-153-AE; ComponentLink1Description: Manufacturer URL; ComponentLink1URL: http://www.analog.com/en/index.html; ComponentLink2Description: Datasheet; ComponentLink2URL: http://www.analog.com/static/imported-files/data_sheets/AD7933_7934.pdf; ComponentLink3Description: Package Specification; ComponentLink3URL: http://www.analog.com/static/imported-files/packages/249854663RU_28.pdf; ComponentLink4Description: Product URL; ComponentLink4URL: http://www.analog.com/en/analog-to-digital-converters/ad-converters/ad7933/products/product.html
footprint RU-28_N (TSOP, 28-Leads, Body 9.7x4.4mm, Pitch 0.65mm, IPC Medium Density)
footprint RU-28_L (TSOP, 28-Leads, Body 9.7x4.4mm, Pitch 0.65mm, IPC High Density)
footprint RU-28_M (TSOP, 28-Leads, Body 9.7x4.4mm, Pitch 0.65mm, IPC Low Density)
pins: 1 VDD (power) "Power Supply Input. The VDD range for the AD7933/AD7934 is from 2.7 V to 5.25 V. Decouple the supply to AGND with a 0.1 uF capacitor and a 10 uF tantalum capacitor.", 2 W/~{B} (in) "Word/Byte Input. When this input is logic high, word transfer mode is enabled, and data is transferred to and from the AD7933/AD7934 in 10-bit words on Pin DB2 to Pin DB11, or in 12-bit words on Pin DB0 to Pin DB11. When (See Datasheet)", 3 DB0 (io) "Data Bit 0 to Data Bit 7. Three-state parallel digital I/O pins that provide the conversion result and allow programming of the control register. These pins are controlled by C\S\, R\D\, and W\R\. The logic high/low voltage (See Datasheet)", 4 DB1 (io) "Data Bit 0 to Data Bit 7. Three-state parallel digital I/O pins that provide the conversion result and allow programming of the control register. These pins are controlled by C\S\, R\D\, and W\R\. The logic high/low voltage (See Datasheet)", 5 DB2 (io) "Data Bit 0 to Data Bit 7. Three-state parallel digital I/O pins that provide the conversion result and allow programming of the control register. These pins are controlled by C\S\, R\D\, and W\R\. The logic high/low voltage (See Datasheet)", 6 DB3 (io) "Data Bit 0 to Data Bit 7. Three-state parallel digital I/O pins that provide the conversion result and allow programming of the control register. These pins are controlled by C\S\, R\D\, and W\R\. The logic high/low voltage (See Datasheet)", 7 DB4 (io) "Data Bit 0 to Data Bit 7. Three-state parallel digital I/O pins that provide the conversion result and allow programming of the control register. These pins are controlled by C\S\, R\D\, and W\R\. The logic high/low voltage (See Datasheet)", 8 DB5 (io) "Data Bit 0 to Data Bit 7. Three-state parallel digital I/O pins that provide the conversion result and allow programming of the control register. These pins are controlled by C\S\, R\D\, and W\R\. The logic high/low voltage (See Datasheet)", 9 DB6 (io) "Data Bit 0 to Data Bit 7. Three-state parallel digital I/O pins that provide the conversion result and allow programming of the control register. These pins are controlled by C\S\, R\D\, and W\R\. The logic high/low voltage (See Datasheet)", 10 DB7 (io) "Data Bit 0 to Data Bit 7. Three-state parallel digital I/O pins that provide the conversion result and allow programming of the control register. These pins are controlled by C\S\, R\D\, and W\R\. The logic high/low voltage (See Datasheet)", 11 VDRIVE (power) "Logic Power Supply Input. The voltage supplied at this pin determines at what voltage the parallel interface of the AD7933/AD7934 operates. Decouple this pin to DGND. The voltage at this pin may be different to that at VDD (See Datasheet)", 12 DGND (power) "Digital Ground. This is the ground reference point for all digital circuitry on the AD7933/AD7934. Connect this pin to the DGND plane of a system. The DGND and AGND voltages should ideally be at the same potential and must (See Datasheet)", 13 DB8/HBEN (io) "Data Bit 8/High Byte Enable. When W/B\ is high, this pin acts as Data Bit 8, a three-state I/O pin that is controlled  by C\S\, R\D\, and W\R\. When W/B\  is low, this pin acts as the high byte enable pin. When HBEN is low, (See Datasheet)", 14 DB9 (io) "Data Bit 9 to Data Bit 11. Three-state parallel digital I/O pins that provide the conversion result and also allow the control register to be programmed in word mode. These pins are controlled by C\S\, R\D\, and W\R\. The (See Datasheet)", 15 DB10 (io) "Data Bit 9 to Data Bit 11. Three-state parallel digital I/O pins that provide the conversion result and also allow the control register to be programmed in word mode. These pins are controlled by C\S\, R\D\, and W\R\. The (See Datasheet)", 16 DB11 (io) "Data Bit 9 to Data Bit 11. Three-state parallel digital I/O pins that provide the conversion result and also allow the control register to be programmed in word mode. These pins are controlled by C\S\, R\D\, and W\R\. The (See Datasheet)", 17 BUSY (out) "Busy Output. This is the logic output indicating the status of the conversion. The BUSY output goes high following the falling edge of C\O\N\V\S\T\ and stays high for the duration of the conversion. Once the conversion is (See Datasheet)", 18 CLKIN (in) "Master Clock Input. The clock source for the conversion process is applied to this pin. Conversion time for the AD7933/AD7934 takes 13 clock cycles + t2. The frequency of the master clock input therefore determines the (See Datasheet)", 19 ~{CONVST} (in) "Conversion Start Input. A falling edge on C\O\N\V\S\T\ initiates a conversion. The track-and-hold goes from track to hold mode on the falling edge of C\O\N\V\S\T\, and the conversion process is initiated at this point. (See Datasheet)", 20 ~{WR} (in) "Write Input. Active low logic input used in conjunction with C\S\ to write data to the control register.", 21 ~{RD} (in) "Read Input. Active low logic input used in conjunction with C\S\ to access the conversion result. The conversion result is placed on the data bus following the falling edge of R\D\  read while C\S\  is low", 22 ~{CS} (in) "Chip Select. Active low logic input used in conjunction with R\D\ and W\R\ to read conversion data or write data to the control register.", 23 AGND (power) "Analog Ground. This is the ground reference point for all analog circuitry on the AD7933/AD7934. All analog input signals and any external reference signal should be referred to this AGND voltage. The AGND and DGND voltages (See Datasheet)", 24 VREFIN/VREFOUT (io) "Reference Input/Output. This pin is connected to the internal reference and is the reference source for the ADC.The nominal internal reference voltage is 2.5 V, and this appears at this pin. It is recommended to decouple the (See Datasheet)", 25 VIN0 (in) "Analog Input 0 to Analog Input 3. Four analog input channels that are multiplexed into the on-chip track-and-hold. The analog inputs can be programmed as four single-ended inputs, two fully differential pairs, or two pseudo (See Datasheet)", 26 VIN1 (in) "Analog Input 0 to Analog Input 3. Four analog input channels that are multiplexed into the on-chip track-and-hold. The analog inputs can be programmed as four single-ended inputs, two fully differential pairs, or two pseudo (See Datasheet)", 27 VIN2 (in) "Analog Input 0 to Analog Input 3. Four analog input channels that are multiplexed into the on-chip track-and-hold. The analog inputs can be programmed as four single-ended inputs, two fully differential pairs, or two pseudo (See Datasheet)", 28 VIN3 (in) "Analog Input 0 to Analog Input 3. Four analog input channels that are multiplexed into the on-chip track-and-hold. The analog inputs can be programmed as four single-ended inputs, two fully differential pairs, or two pseudo (See Datasheet)"